# Altium schematic symbol library Sensor_Optical.SchLib: 71 symbols
Pins are listed as number, name and electrical type; pins without a type are passive.

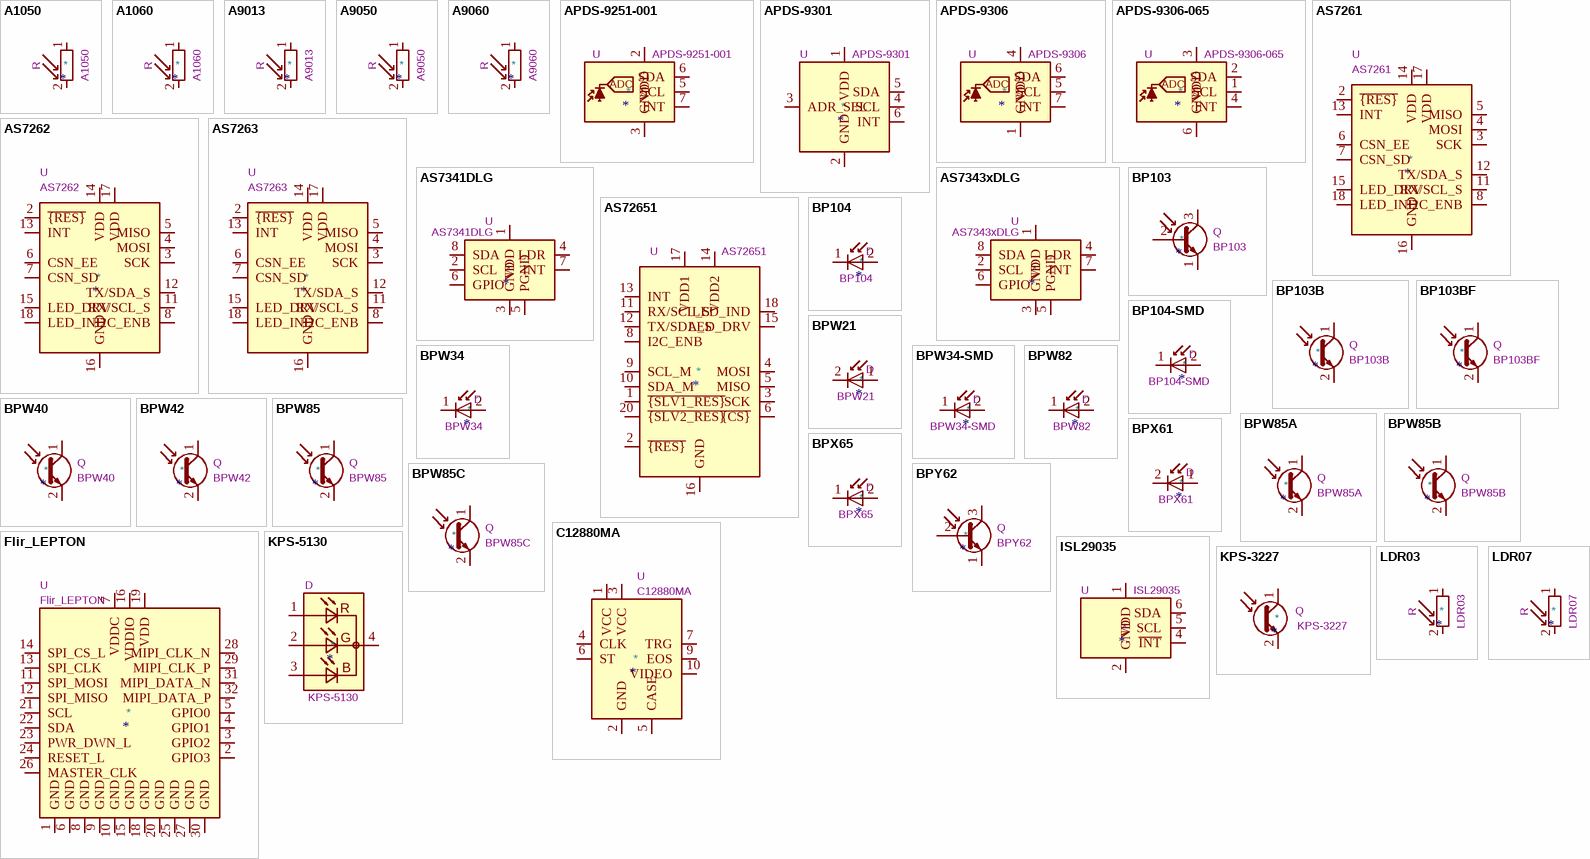
[diagram p0: symbols A1050 to LDR07]

## A1050
designator *  value A1050  Reference: R
ki_keywords: light dependent photo resistor LDR; ki_description: light dependent resistor; ki_fp_filters: R*LDR*D6.4*P3.4*; Footprint: OptoDevice:R_LDR_D6.4mm_P3.4mm_Vertical; Datasheet: http://cdn-reichelt.de/documents/datenblatt/A500/A106012.pdf
pins: 1, 2

## A1060
designator *  value A1060  Reference: R
ki_keywords: light dependent photo resistor LDR; ki_description: light dependent resistor; ki_fp_filters: R*LDR*D6.4*P3.4*; Footprint: OptoDevice:R_LDR_D6.4mm_P3.4mm_Vertical; Datasheet: http://cdn-reichelt.de/documents/datenblatt/A500/A106012.pdf
pins: 1, 2

## A9013
designator *  value A9013  Reference: R
ki_keywords: light dependent photo resistor LDR; ki_description: light dependent resistor; ki_fp_filters: R*LDR*5.0x4.1mm*P3mm*; Footprint: OptoDevice:R_LDR_5.0x4.1mm_P3mm_Vertical; Datasheet: http://www.produktinfo.conrad.com/datenblaetter/125000-149999/145475-da-01-en-FOTOWIDERSTAND_A_9060_A_9013.pdf
pins: 1, 2

## A9050
designator *  value A9050  Reference: R
ki_keywords: light dependent photo resistor LDR; ki_description: light dependent resistor; ki_fp_filters: R*LDR*5.0x4.1mm*P3mm*; Footprint: OptoDevice:R_LDR_5.0x4.1mm_P3mm_Vertical; Datasheet: http://cdn-reichelt.de/documents/datenblatt/A500/A90xxxx%23PE.pdf
pins: 1, 2

## A9060
designator *  value A9060  Reference: R
ki_keywords: light dependent photo resistor LDR; ki_description: light dependent resistor; ki_fp_filters: R*LDR*5.0x4.1mm*P3mm*; Footprint: OptoDevice:R_LDR_5.0x4.1mm_P3mm_Vertical; Datasheet: http://cdn-reichelt.de/documents/datenblatt/A500/A90xxxx%23PE.pdf
pins: 1, 2

## APDS-9251-001
designator *  value APDS-9251-001  Reference: U
ki_keywords: opto ambient light sensor; ki_description: Digital RGB, IR, and Ambient Light Sensor, 1.7-3.6V, LGA-8; ki_fp_filters: Broadcom*LGA*2x2mm*P0.5mm*; Footprint: OptoDevice:Broadcom_LGA-8_2x2mm_P0.5mm; Datasheet: https://docs.broadcom.com/doc/APDS-9251-001-DS
pins: 1 NC hidden, 2 VDD, 3 GND, 4 NC hidden, 5 SCL, 6 SDA, 7 INT, 8 NC hidden
text: ADC

## APDS-9301
designator *  value APDS-9301  Reference: U
ki_keywords: ambient light sensor i2c; ki_description: ambient light sensor, i2c interface, 2.7-3.6V; ki_fp_filters: Broadcom*APDS*9301*; Footprint: OptoDevice:Broadcom_APDS-9301; Datasheet: https://docs.broadcom.com/docs/AV02-2315EN
pins: 1 VDD, 2 GND, 3 ADR_SEL, 4 SCL, 5 SDA, 6 INT

## APDS-9306
designator *  value APDS-9306  Reference: U
ki_keywords: opto ambient light sensor; ki_description: Ambient Light Sensor, I2C interface, 1.7-3.6V, LGA-8; ki_fp_filters: Broadcom*LGA*2x2mm*P0.53mm*; Footprint: OptoDevice:Broadcom_LGA-8_2x2mm_P0.53mm; Datasheet: https://docs.broadcom.com/docs/AV02-4755EN
pins: 1 GND, 2 NC hidden, 3 NC hidden, 4 VDD, 5 SCL, 6 SDA, 7 INT, 8 NC hidden
text: ADC

## APDS-9306-065
designator *  value APDS-9306-065  Reference: U
ki_keywords: opto ambient light sensor; ki_description: Ambient Light Sensor, I2C interface, 1.7-3.6V, DFN-6; ki_fp_filters: Broadcom*DFN*2x2mm*P0.65mm*; Footprint: OptoDevice:Broadcom_DFN-6_2x2mm_P0.65mm; Datasheet: https://docs.broadcom.com/docs/AV02-4755EN
pins: 1 SCL, 2 SDA, 3 VDD, 4 INT, 5 NC hidden, 6 GND
text: ADC

## AS7261
designator *  value AS7261  Reference: U
ki_keywords: 6-Channel XYZ Spectral_ID Device Electronic Shutter Smart Interface i2c uart; ki_description: Spectral Sensing Engine, 6-Channel XYZ Spectral_ID; ki_fp_filters: AMS?LGA*4.7x4.5mm*P0.65mm*; Footprint: Package_LGA:AMS_LGA-20_4.7x4.5mm_P0.65mm; Datasheet: https://ams.com/documents/20143/36005/AS7261_DS000493_1-00.pdf/0e7d1f12-702e-d061-b07a-67b0b6316800
pins: 1 NF hidden, 2 ~{{RES}}, 3 SCK, 4 MOSI, 5 MISO, 6 CSN_EE, 7 CSN_SD, 8 I2C_ENB, 9 NF hidden, 10 NF hidden, 11 RX/SCL_S, 12 TX/SDA_S, 13 INT, 14 VDD, 15 LED_DRV, 16 GND, 17 VDD, 18 LED_IND, 19 NF hidden, 20 NF hidden

## AS7262
designator *  value AS7262  Reference: U
ki_keywords: 6-Channel Visible Spectral_ID Device Electronic Shutter Smart Interface i2c uart; ki_description: Spectral Sensing Engine, 6-Channel Visible Spectral_ID; ki_fp_filters: AMS?LGA*4.7x4.5mm*P0.65mm*; Footprint: Package_LGA:AMS_LGA-20_4.7x4.5mm_P0.65mm; Datasheet: https://ams.com/documents/20143/36005/AS7262_DS000486_5-00.pdf
pins: 1 NF hidden, 2 ~{{RES}}, 3 SCK, 4 MOSI, 5 MISO, 6 CSN_EE, 7 CSN_SD, 8 I2C_ENB, 9 NF hidden, 10 NF hidden, 11 RX/SCL_S, 12 TX/SDA_S, 13 INT, 14 VDD, 15 LED_DRV, 16 GND, 17 VDD, 18 LED_IND, 19 NF hidden, 20 NF hidden

## AS7263
designator *  value AS7263  Reference: U
ki_keywords: 6-Channel NIR Spectral_ID Device Electronic Shutter Smart Interface i2c uart; ki_description: Spectral Sensing Engine, 6-Channel NIR Spectral_ID; ki_fp_filters: AMS?LGA*4.7x4.5mm*P0.65mm*; Footprint: Package_LGA:AMS_LGA-20_4.7x4.5mm_P0.65mm; Datasheet: https://ams.com/documents/20143/36005/AS7263_DS000476_4-00.pdf
pins: 1 NF hidden, 2 ~{{RES}}, 3 SCK, 4 MOSI, 5 MISO, 6 CSN_EE, 7 CSN_SD, 8 I2C_ENB, 9 NF hidden, 10 NF hidden, 11 RX/SCL_S, 12 TX/SDA_S, 13 INT, 14 VDD, 15 LED_DRV, 16 GND, 17 VDD, 18 LED_IND, 19 NF hidden, 20 NF hidden

## AS7341DLG
designator *  value AS7341DLG  Reference: U
ki_keywords: 11-Channel Spectral i2c optical color; ki_description: 11-Channel Multi-Spectral Digital Sensor, OLGA-8; ki_fp_filters: AMS*OLGA*2x3.1mm*P0.8mm*; Footprint: Package_LGA:AMS_OLGA-8_2x3.1mm_P0.8mm; Datasheet: https://ams.com/documents/20143/36005/AS7341_DS000504_3-00.pdf
pins: 1 VDD, 2 SCL, 3 GND, 4 LDR, 5 PGND, 6 GPIO, 7 INT, 8 SDA

## AS7343xDLG
designator *  value AS7343xDLG  Reference: U
ki_keywords: 14-Channel Spectral i2c optical color; ki_description: 14-Channel Multi-Spectral Digital Sensor including XYZ, Clear and Flicker Detection, 380 - 1000 nm,OLGA-8; ki_fp_filters: AMS*OLGA*2x3.1mm*P0.8mm*; Footprint: Package_LGA:AMS_OLGA-8_2x3.1mm_P0.8mm; Datasheet: https://ams.com/documents/20143/6705498/AS7343_DS001046_6_00.pdf
pins: 1 VDD, 2 SCL, 3 GND, 4 LDR, 5 PGND, 6 GPIO, 7 INT, 8 SDA

## AS72651
designator *  value AS72651  Reference: U
ki_keywords: Smart Spectral Sensor; ki_description: Smart 18-Channel VIS+NIR Spectral_ID Sensor with Electronic Shutter, LGA-20; ki_fp_filters: AMS?LGA*4.7x4.5mm*P0.65mm*; Footprint: Package_LGA:AMS_LGA-20_4.7x4.5mm_P0.65mm; Datasheet: https://ams.com/documents/20143/36005/AS7265x_DS000612_1-00.pdf/08051c8a-a7f6-6231-7993-2d3fe0bf38b8
pins: 1 ~{{SLV1_RES}}, 2 ~{{RES}}, 3 SCK, 4 MOSI, 5 MISO, 6 ~{{CS}}, 7 NC hidden, 8 I2C_ENB, 9 SCL_M, 10 SDA_M, 11 RX/SCL_S, 12 TX/SDA_S, 13 INT, 14 VDD2, 15 LED_DRV, 16 GND, 17 VDD1, 18 LED_IND, 19 NC hidden, 20 ~{{SLV2_RES}}

## BP103
designator *  value BP103  Reference: Q
ki_keywords: npn phototransistor; ki_fp_filters: TO?18*Lens*; Footprint: Package_TO_SOT_THT:TO-18-3_Lens; Datasheet: http://www.osram-os.com/Graphics/XPic3/00101777_0.pdf/BP; ki_description: NPN Phototransistor
pins: 1 E, 2 B, 3 C

## BP103B
designator *  value BP103B  Reference: Q
ki_keywords: NPN phototransistor; ki_fp_filters: LED*D5.0mm*Clear*; Footprint: LED_THT:LED_D5.0mm_Clear; Datasheet: http://www.b-kainka.de/Daten/Sensor/bp103bf.pdf; ki_description: NPN phototransistor
pins: 1 C, 2 E

## BP103BF
designator *  value BP103BF  Reference: Q
ki_keywords: IR NPN phototransistor; ki_description: NPN phototransistor with daylight filter; ki_fp_filters: LED*D5.0mm*Clear*; Footprint: LED_THT:LED_D5.0mm_Clear; Datasheet: http://www.b-kainka.de/Daten/Sensor/bp103bf.pdf
pins: 1 C, 2 E

## BP104
designator *  value BP104  Reference: D
ki_keywords: opto PIN photodiode; ki_description: Silicon PIN Photodiode; ki_fp_filters: Osram*DIL2*4.3x4.65mm*P5.08*; Footprint: OptoDevice:Osram_DIL2_4.3x4.65mm_P5.08mm; Datasheet: http://www.vishay.com/docs/81500/81500.pdf
pins: 1 K, 2 A

## BP104-SMD
designator *  value BP104-SMD  Reference: D
ki_keywords: opto photodiode; ki_description: Silicon PIN Photodiode,  Area 2.2x2.2mm; ki_fp_filters: Osram*BP104*; Footprint: OptoDevice:Osram_BP104-SMD; Datasheet: https://dammedia.osram.info/media/resource/hires/osram-dam-5989350/BP%20104%20FAS_EN.pdf
pins: 1 K, 2 A

## BPW21
designator *  value BPW21  Reference: D
ki_keywords: opto photodiode; ki_description: Silicon Photodiode for the visible spectral range, TO-5 package; ki_fp_filters: TO?5*Window*; Footprint: Package_TO_SOT_THT:TO-5-2_Window; Datasheet: http://techwww.in.tu-clausthal.de/site/Dokumentation/Dioden/Fotodioden/BPW21-Fotodiode.pdf
pins: 1 A, 2 K

## BPW34
designator *  value BPW34  Reference: D
ki_keywords: opto PIN photodiode; ki_description: Silicon PIN Photodiode; ki_fp_filters: Osram*DIL2*4.3x4.65mm*P5.08*; Footprint: OptoDevice:Osram_DIL2_4.3x4.65mm_P5.08mm; Datasheet: http://www.vishay.com/docs/81521/bpw34.pdf
pins: 1 K, 2 A

## BPW34-SMD
designator *  value BPW34-SMD  Reference: D
ki_keywords: opto photodiode; ki_description: Silicon PIN Photodiode, Area 2.65x2.65mm; ki_fp_filters: Osram*BPW34S*; Footprint: OptoDevice:Osram_BPW34S-SMD; Datasheet: https://dammedia.osram.info/media/resource/hires/osram-dam-5488319/BPW%2034%20S_EN.pdf
pins: 1 K, 2 A

## BPW40
designator *  value BPW40  Reference: Q
ki_keywords: npn phototransistor; ki_description: Phototransistor NPN; ki_fp_filters: LED*D5.0mm*Clear*; Footprint: LED_THT:LED_D5.0mm_Clear; Datasheet: https://www.rcscomponents.kiev.ua/datasheets/bpw40.pdf
pins: 1 C, 2 E

## BPW42
designator *  value BPW42  Reference: Q
ki_keywords: NPN phototransistor opto; ki_description: NPN phototransistor; ki_fp_filters: LED*3.0mm*Clear*; Footprint: LED_THT:LED_D3.0mm_Clear; Datasheet: http://www.ges.cz/sheets/b/bpw42.pdf
pins: 1 C, 2 E

## BPW82
designator *  value BPW82  Reference: D
ki_keywords: opto photo diode; ki_description: Silicon PIN Photodiode with Daylight Blocking Filter; ki_fp_filters: Osram*BPW82*; Footprint: OptoDevice:Osram_BPW82; Datasheet: http://www.vishay.com/docs/81529/bpw82.pdf
pins: 1 K, 2 A

## BPW85
designator *  value BPW85  Reference: Q
ki_keywords: npn phototransistor; ki_description: Silicon NPN Phototransistor, Ica = 0.8-8mA, T-1; ki_fp_filters: LED*3.0mm*Clear*; Footprint: LED_THT:LED_D3.0mm_Clear; Datasheet: https://www.vishay.com/docs/81531/bpw85a.pdf
pins: 1 C, 2 E

## BPW85A
designator *  value BPW85A  Reference: Q
ki_keywords: npn phototransistor; ki_description: Silicon NPN Phototransistor, Ica = 0.8-2.5mA, T-1; ki_fp_filters: LED*3.0mm*Clear*; Footprint: LED_THT:LED_D3.0mm_Clear; Datasheet: https://www.vishay.com/docs/81531/bpw85a.pdf
pins: 1 C, 2 E

## BPW85B
designator *  value BPW85B  Reference: Q
ki_keywords: npn phototransistor; ki_description: Silicon NPN Phototransistor, Ica = 1.5-4mA, T-1; ki_fp_filters: LED*3.0mm*Clear*; Footprint: LED_THT:LED_D3.0mm_Clear; Datasheet: https://www.vishay.com/docs/81531/bpw85a.pdf
pins: 1 C, 2 E

## BPW85C
designator *  value BPW85C  Reference: Q
ki_keywords: npn phototransistor; ki_description: Silicon NPN Phototransistor, Ica = 3-8mA, T-1; ki_fp_filters: LED*3.0mm*Clear*; Footprint: LED_THT:LED_D3.0mm_Clear; Datasheet: https://www.vishay.com/docs/81531/bpw85a.pdf
pins: 1 C, 2 E

## BPX61
designator *  value BPX61  Reference: D
ki_keywords: photodiode opto; ki_description: Silicon Photodiode for the visible spectral range; ki_fp_filters: TO?5*Window*; Footprint: Package_TO_SOT_THT:TO-5-2_Window; Datasheet: http://www.osram-os.com/Graphics/XPic3/00101650_0.pdf
pins: 1 A, 2 K

## BPX65
designator *  value BPX65  Reference: D
ki_keywords: opto PIN photo diode; ki_description: Silicon PIN Photodiode, TO-18 package; ki_fp_filters: TO?18*Lens*; Footprint: Package_TO_SOT_THT:TO-18-2_Lens; Datasheet: http://www.osram-os.com/Graphics/XPic1/00181579_0.pdf/BPX%2065,%20Lead%20(Pb)%20Free%20Product%20-%20RoHS%20Compliant.pdf
pins: 1 K, 2 A

## BPY62
designator *  value BPY62  Reference: Q
ki_keywords: NPN Phototransistor opto; ki_description: NPN Phototransistor; ki_fp_filters: TO?18*Lens*; Footprint: Package_TO_SOT_THT:TO-18-3_Lens; Datasheet: http://www.osram-os.com/Graphics/XPic9/00208595_0.pdf
pins: 1 E, 2 B, 3 C

## C12880MA
designator *  value C12880MA  Reference: U
ki_keywords: spectrometer; ki_description: Micro spectrometer 340 to 850nm resolution 15nm; ki_fp_filters: Hamamatsu*C12880*; Footprint: OptoDevice:Hamamatsu_C12880; Datasheet: http://www.hamamatsu.com/resources/pdf/ssd/c12880ma_kacc1226e.pdf
pins: 1 VCC, 2 GND, 3 VCC, 4 CLK, 5 CASE, 6 ST, 7 TRG, 8 NC hidden, 9 EOS, 10 VIDEO

## Flir_LEPTON
designator *  value Flir_LEPTON  Reference: U
ki_keywords: LWIR camera; ki_description: LWIR camera 8 to 14um 80x60 pixel; ki_fp_filters: *105028*1001* *105028*2011*; Datasheet: https://cdn.sparkfun.com/datasheets/Sensors/Infrared/FLIR_Lepton_Data_Brief.pdf
pins: 1 GND, 2 GPIO3, 3 GPIO2, 4 GPIO1, 5 GPIO0, 6 GND, 7 VDDC, 8 GND, 9 GND, 10 GND, 11 SPI_MOSI, 12 SPI_MISO, 13 SPI_CLK, 14 SPI_CS_L, 15 GND, 16 VDDIO, 17 NC hidden, 18 GND, 19 VDD, 20 GND, 21 SCL, 22 SDA, 23 PWR_DWN_L, 24 RESET_L, 25 GND, 26 MASTER_CLK, 27 GND, 28 MIPI_CLK_N, 29 MIPI_CLK_P, 30 GND, 31 MIPI_DATA_N, 32 MIPI_DATA_P

## ISL29035
designator *  value ISL29035  Reference: U
ki_keywords: ambient light sensor i2c; ki_description: ambient light sensor, i2c interface, 2.25-3.63V, DFN-6; ki_fp_filters: Renesas*DFN*1.5x1.6mm*P0.5mm*; Footprint: OptoDevice:Renesas_DFN-6_1.5x1.6mm_P0.5mm; Datasheet: https://www.renesas.com/us/en/document/dst/isl29035-datasheet
pins: 1 VDD, 2 GND, 3 NC hidden, 4 ~{INT}, 5 SCL, 6 SDA

## KPS-3227
designator *  value KPS-3227  Reference: Q
ki_keywords: Kingbright npn phototransistor ambient light photo sensor; ki_description: Ambient light NPN phototransistor, KPS-3227; ki_fp_filters: Kingbright*KPS?3227*; Footprint: OptoDevice:Kingbright_KPS-3227; Datasheet: https://www.kingbright.com/attachments/file/psearch/000/00/00/KPS-3227SP1C(Ver.16).pdf
pins: 1, 2, 3 hidden, 4 hidden

## KPS-5130
designator *  value KPS-5130  Reference: D
ki_keywords: opto photodiode RGB colour sensor; ki_description: RGB Colour Sensor, KPS-5130; ki_fp_filters: Kingbright*KPS?5130*; Footprint: OptoDevice:Kingbright_KPS-5130; Datasheet: https://www.kingbright.com/attachments/file/psearch/000/00/20160808bak/KPS-5130PD7C(Ver.13).pdf
pins: 1 AR, 2 AG, 3 AB, 4 C
text: R; G; B

## LDR03
designator *  value LDR03  Reference: R
ki_keywords: light dependent photo resistor LDR; ki_description: light dependent resistor; ki_fp_filters: R*LDR*10x8.5mm*P7.6mm*; Footprint: OptoDevice:R_LDR_10x8.5mm_P7.6mm_Vertical; Datasheet: http://www.elektronica-componenten.nl/WebRoot/StoreNL/Shops/61422969/54F1/BA0C/C664/31B9/2173/C0A8/2AB9/2AEF/LDR03IMP.pdf
pins: 1, 2

## LDR07
designator *  value LDR07  Reference: R
ki_keywords: light dependent photo resistor LDR; ki_description: light dependent resistor; ki_fp_filters: R*LDR*5.1x4.3mm*P3.4mm*; Footprint: OptoDevice:R_LDR_5.1x4.3mm_P3.4mm_Vertical; Datasheet: http://www.tme.eu/de/Document/f2e3ad76a925811312d226c31da4cd7e/LDR07.pdf
pins: 1, 2

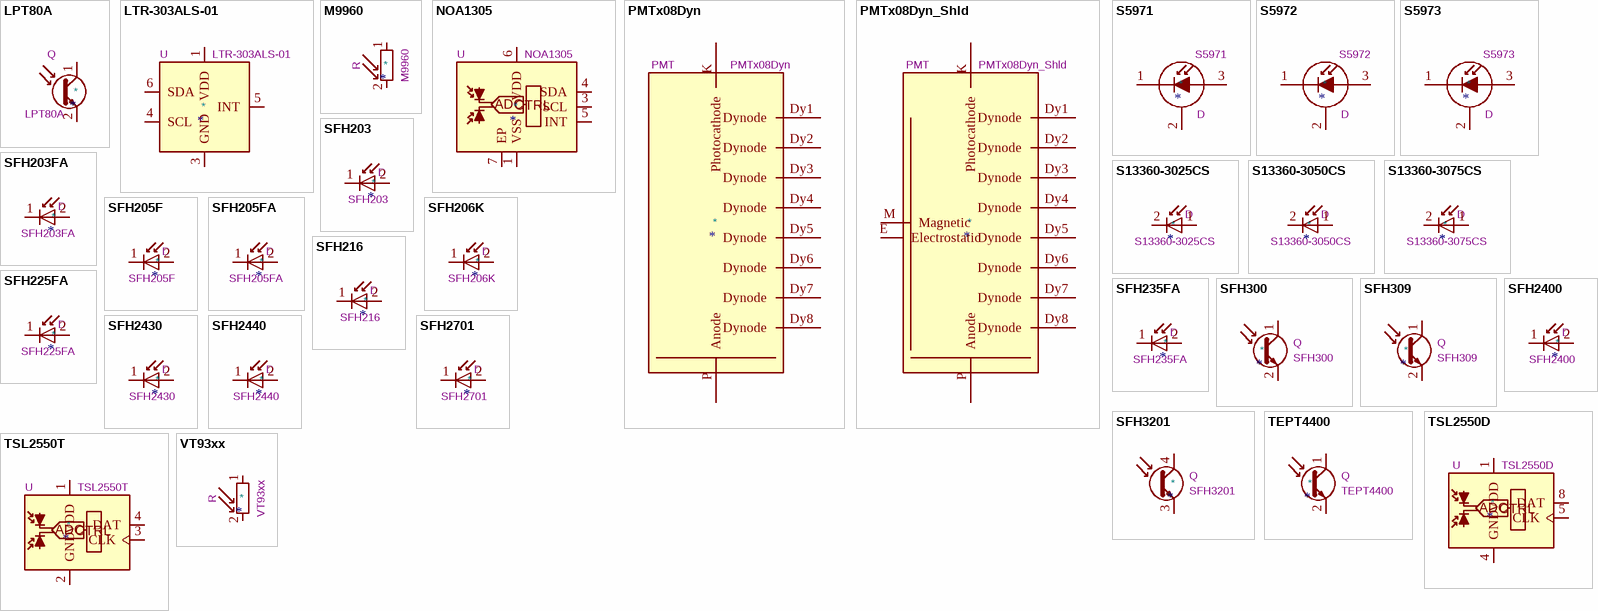
[diagram p1: symbols LPT80A to VT93xx]

## LPT80A
designator *  value LPT80A  Reference: Q
ki_keywords: NPN phototransistor; ki_fp_filters: Osram*LPT80A*; Footprint: OptoDevice:Osram_LPT80A; Datasheet: http://www.osram-os.com/Graphics/XPic4/00209607_0.pdf/LPT%2080A.pdf; ki_description: NPN phototransistor
pins: 1 C, 2 E

## LTR-303ALS-01
designator *  value LTR-303ALS-01  Reference: U
ki_keywords: ambient light sensor i2c; ki_description: ambient light sensor, i2c interface, 0.01 to 64k lux, 2.4-3.6V; ki_fp_filters: Lite*On*LTR*303ALS*01*; Footprint: OptoDevice:Lite-On_LTR-303ALS-01; Datasheet: https://optoelectronics.liteon.com/upload/download/DS86-2013-0004/LTR-303ALS-01_DS_V1.pdf
pins: 1 VDD, 2 NC hidden, 3 GND, 4 SCL, 5 INT, 6 SDA

## M9960
designator *  value M9960  Reference: R
ki_keywords: light dependent photo resistor LDR; ki_description: light dependent resistor; ki_fp_filters: R*LDR*5.2x5.2mm*P3.5mm*; Footprint: OptoDevice:R_LDR_5.2x5.2mm_P3.5mm_Horizontal; Datasheet: http://cdn-reichelt.de/documents/datenblatt/A500/M996011a_b.pdf
pins: 1, 2

## NOA1305
designator *  value NOA1305  Reference: U
ki_keywords: opto ambient light sensor; ki_description: Ambient Light Sensor with I2C Interface and Dark Current Compensation; ki_fp_filters: DFN*6*P0.65mm*; Footprint: Package_DFN_QFN:DFN-6-1EP_2x2mm_P0.65mm_EP1x1.6mm; Datasheet: http://www.onsemi.com/pub/Collateral/NOA1305-D.PDF
pins: 1 VSS, 2 NC hidden, 3 SCL, 4 SDA, 5 INT, 6 VDD, 7 EP
text: ADC; CTRL

## PMTx08Dyn
designator *  value PMTx08Dyn  Reference: PMT
ki_keywords: PMT 8-stage; ki_description: 8-stage photomultiplier tube; ki_fp_filters: PMT*; Datasheet: ~
pins: Dy1 Dynode, Dy2 Dynode, Dy3 Dynode, Dy4 Dynode, Dy5 Dynode, Dy6 Dynode, Dy7 Dynode, Dy8 Dynode, K Photocathode, P Anode

## PMTx08Dyn_Shld
designator *  value PMTx08Dyn_Shld  Reference: PMT
ki_keywords: PMT 8-stage; ki_description: 8-stage photomultiplier tube with electrostatic and magnetic shield; ki_fp_filters: PMT*; Datasheet: ~
pins: Dy1 Dynode, Dy2 Dynode, Dy3 Dynode, Dy4 Dynode, Dy5 Dynode, Dy6 Dynode, Dy7 Dynode, Dy8 Dynode, E Electrostatic, K Photocathode, M Magnetic, P Anode

## S5971
designator *  value S5971  Reference: D
ki_keywords: opto photodiode; ki_description: Si PIN Photodiode, 0.1 GHz, TO-18-3; ki_fp_filters: TO?18*; Footprint: Package_TO_SOT_THT:TO-18-3; Datasheet: https://www.hamamatsu.com/resources/pdf/ssd/s5971_etc_kpin1025e.pdf
pins: 1 K, 2 C, 3 A

## S5972
designator *  value S5972  Reference: D
ki_keywords: opto photodiode; ki_description: Si PIN Photodiode, 0.5 GHz, TO-18-3; ki_fp_filters: TO?18*; Footprint: Package_TO_SOT_THT:TO-18-3; Datasheet: https://www.hamamatsu.com/resources/pdf/ssd/s5971_etc_kpin1025e.pdf
pins: 1 K, 2 C, 3 A

## S5973
designator *  value S5973  Reference: D
ki_keywords: opto photodiode; ki_description: Si PIN Photodiode, 1 GHz, TO-18-3; ki_fp_filters: TO?18*; Footprint: Package_TO_SOT_THT:TO-18-3; Datasheet: https://www.hamamatsu.com/resources/pdf/ssd/s5971_etc_kpin1025e.pdf
pins: 1 K, 2 C, 3 A

## S13360-3025CS
designator *  value S13360-3025CS  Reference: D
ki_keywords: opto SiPM MPPC hamamatsu SPAD; ki_description: Multi-Pixel Photon Counter with 25µm pixel pitch; ki_fp_filters: Hamamatsu*S13360*30CS*; Footprint: OptoDevice:Hamamatsu_S13360-30CS; Datasheet: http://www.hamamatsu.com/resources/pdf/ssd/s13360_series_kapd1052e.pdf
pins: 1 A, 2 K

## S13360-3050CS
designator *  value S13360-3050CS  Reference: D
ki_keywords: opto SiPM MPPC hamamatsu SPAD; ki_description: Multi-Pixel Photon Counter with 50µm pixel pitch; ki_fp_filters: Hamamatsu*S13360*30CS*; Footprint: OptoDevice:Hamamatsu_S13360-30CS; Datasheet: http://www.hamamatsu.com/resources/pdf/ssd/s13360_series_kapd1052e.pdf
pins: 1 A, 2 K

## S13360-3075CS
designator *  value S13360-3075CS  Reference: D
ki_keywords: opto SiPM MPPC hamamatsu SPAD; ki_description: Multi-Pixel Photon Counter with 75µm pixel pitch; ki_fp_filters: Hamamatsu*S13360*30CS*; Footprint: OptoDevice:Hamamatsu_S13360-30CS; Datasheet: http://www.hamamatsu.com/resources/pdf/ssd/s13360_series_kapd1052e.pdf
pins: 1 A, 2 K

## SFH203
designator *  value SFH203  Reference: D
ki_keywords: opto PIN photodiode; ki_description: Silicon PIN Photodiode; ki_fp_filters: LED*D5.0mm*IRGrey*; Footprint: LED_THT:LED_D5.0mm_IRGrey; Datasheet: http://www.osram-os.com/Graphics/XPic9/00101656_0.pdf/SFH%20203,%20SFH%20203%20FA,%20Lead%20(Pb)%20Free%20Product%20-%20RoHS%20Compliant.pdf
pins: 1 K, 2 A

## SFH203FA
designator *  value SFH203FA  Reference: D
ki_keywords: PIN photodiode IR; ki_description: Silicon PIN Photodiode with Daylight Blocking Filter; ki_fp_filters: LED*D5.0mm*IRGrey*; Footprint: LED_THT:LED_D5.0mm_IRGrey; Datasheet: http://www.osram-os.com/Graphics/XPic9/00101656_0.pdf/SFH%20203,%20SFH%20203%20FA,%20Lead%20(Pb)%20Free%20Product%20-%20RoHS%20Compliant.pdf
pins: 1 K, 2 A

## SFH205F
designator *  value SFH205F  Reference: D
ki_keywords: opto photo diode; ki_description: Silicon PIN Photodiode with Daylight Blocking Filter; ki_fp_filters: Osram*SFH205*; Footprint: OptoDevice:Osram_SFH205; Datasheet: http://www.osram-os.com/Graphics/XPic2/00101668_0.pdf
pins: 1 K, 2 A

## SFH205FA
designator *  value SFH205FA  Reference: D
ki_keywords: PIN Photodiode; ki_description: Silicon PIN Photodiode with Daylight Blocking Filter; ki_fp_filters: Osram*SFH205*; Footprint: OptoDevice:Osram_SFH205; Datasheet: http://www.osram-os.com/Graphics/XPic9/00101665_0.pdf
pins: 1 K, 2 A

## SFH206K
designator *  value SFH206K  Reference: D
ki_keywords: opto PIN photodiode; ki_description: Silicon PIN Photodiode; ki_fp_filters: Osram*SFH205*; Footprint: OptoDevice:Osram_SFH205; Datasheet: http://www.osram-os.com/Graphics/XPic0/00211439_0.pdf/SFH%20206%20K.pdf
pins: 1 K, 2 A

## SFH216
designator *  value SFH216  Reference: D
ki_keywords: opto PIN photo diode; ki_description: Silicon PIN Photodiode With Very Short Switching Time, TO-18 package; ki_fp_filters: TO?18*Window*; Footprint: Package_TO_SOT_THT:TO-18-2_Window; Datasheet: http://www.osram-os.com/Graphics/XPic1/00029253_0.pdf/SFH
pins: 1 K, 2 A

## SFH225FA
designator *  value SFH225FA  Reference: D
ki_keywords: opto PIN photodiode IR; ki_description: Silicon PIN Photodiode with Daylight Blocking Filter; ki_fp_filters: Osram*SFH225*; Footprint: OptoDevice:Osram_SFH225; Datasheet: http://www.osram-os.com/Graphics/XPic0/00209685_0.pdf/SFH%20225%20FA.pdf
pins: 1 K, 2 A

## SFH235FA
designator *  value SFH235FA  Reference: D
ki_keywords: opto PIN photodiode IR; ki_description: Silicon PIN Photodiode with Daylight Blocking Filter; ki_fp_filters: Osram*SFH225*; Footprint: OptoDevice:Osram_SFH225; Datasheet: http://www.osram-os.com/Graphics/XPic3/00211469_0.pdf/SFH%20235%20FA.pdf
pins: 1 K, 2 A

## SFH300
designator *  value SFH300  Reference: Q
ki_keywords: NPN phototransistor; ki_description: silicon NPN phototransistor; ki_fp_filters: LED*D5.0mm*Clear*; Footprint: LED_THT:LED_D5.0mm_Clear; Datasheet: http://www.osram-os.com/Graphics/XPic2/00101785_0.pdf
pins: 1 C, 2 E

## SFH309
designator *  value SFH309  Reference: Q
ki_keywords: npn phototransistor; ki_description: Phototransistor NPN; ki_fp_filters: LED*3.0mm*Clear*; Footprint: LED_THT:LED_D3.0mm_Clear; Datasheet: http://www.osram-os.com/Graphics/XPic2/00101811_0.pdf/SFH%20309,%20SFH%20309%20FA,%20Lead%20(Pb)%20Free%20Product%20-%20RoHS%20Compliant.pdf
pins: 1 C, 2 E

## SFH2400
designator *  value SFH2400  Reference: D
ki_keywords: opto photodiode; ki_description: Silicon PIN Photodiode, SMD package; ki_fp_filters: Osram*SMD*SmartDIL*; Footprint: OptoDevice:Osram_SMD-SmartDIL; Datasheet: http://www.osram-os.com/Graphics/XPic5/00215665_0.pdf/SFH%202400.pdf
pins: 1 K, 2 A

## SFH2430
designator *  value SFH2430  Reference: D
ki_keywords: opto photodiode; ki_description: Silicon Photodiode, Vf 1.2V, Area 2.65x2.65mm; ki_fp_filters: Osram*SFH2430*; Footprint: OptoDevice:Osram_SFH2430; Datasheet: https://dammedia.osram.info/media/resource/hires/osram-dam-5467144/SFH%202430_EN.pdf
pins: 1 K, 2 A

## SFH2440
designator *  value SFH2440  Reference: D
ki_keywords: opto photodiode; ki_description: Silicon Photodiode, Vf 1V, Area 2.65x2.65mm; ki_fp_filters: Osram*SFH2440*; Footprint: OptoDevice:Osram_SFH2440; Datasheet: https://dammedia.osram.info/media/resource/hires/osram-dam-5467146/SFH%202440_EN.pdf
pins: 1 K, 2 A

## SFH2701
designator *  value SFH2701  Reference: D
ki_keywords: opto photodiode; ki_description: High Speed PIN Photodiode, SMD package; ki_fp_filters: LED*1206*; Footprint: LED_SMD:LED_1206_3216Metric_Castellated; Datasheet: http://www.osram-os.com/Graphics/XPic6/00201111_0.pdf/SFH%202701.pdf
pins: 1 K, 2 A

## SFH3201
designator *  value SFH3201  Reference: Q
ki_keywords: NPN phototransistor; ki_description: Silicon NPN phototransistor, SMD-6; ki_fp_filters: Osram*SFH9x0x*; Footprint: OptoDevice:Osram_SFH9x0x; Datasheet: https://dammedia.osram.info/media/resource/hires/osram-dam-2495980/SFH%203201.pdf
pins: 3 E, 4 C

## TEPT4400
designator *  value TEPT4400  Reference: Q
ki_keywords: npn phototransistor ambient light sensor; ki_description: Ambient Light Sensor, NPN Epitaxial Planar Phototransistor, T-1; ki_fp_filters: LED*3.0mm*Clear*; Footprint: LED_THT:LED_D3.0mm_Clear; Datasheet: https://www.vishay.com/docs/81341/tept4400.pdf
pins: 1 C, 2 E

## TSL2550D
designator *  value TSL2550D  Reference: U
ki_keywords: opto ambient light sensor; ki_description: Ambient Light Sensor with SMbus Interface, SO-8 interface; ki_fp_filters: SOIC*3.9x4.9mm*P1.27mm*; Footprint: Package_SO:SOIC-8_3.9x4.9mm_P1.27mm; Datasheet: http://ams.com/eng/content/download/250130/975613/142977
pins: 1 VDD, 2 NC hidden, 3 NC hidden, 4 GND, 5 CLK, 6 NC hidden, 7 NC hidden, 8 DAT
text: ADC; CTRL

## TSL2550T
designator *  value TSL2550T  Reference: U
ki_keywords: opto ambient light sensor; ki_description: Ambient Light Sensor with SMbus Interface, T-4 interface SMD; ki_fp_filters: AMS*TSL2550*SMD*; Footprint: OptoDevice:AMS_TSL2550_SMD; Datasheet: http://ams.com/eng/content/download/250130/975613/142977
pins: 1 VDD, 2 GND, 3 CLK, 4 DAT
text: ADC; CTRL

## VT93xx
designator *  value VT93xx  Reference: R
ki_keywords: light dependent photo resistor LDR; ki_description: light dependent resistor; ki_fp_filters: R*LDR*4.9x4.2mm*P2.54mm*; Footprint: OptoDevice:R_LDR_4.9x4.2mm_P2.54mm_Vertical; Datasheet: http://www.produktinfo.conrad.com/datenblaetter/125000-149999/140375-da-01-en-FOTOWIDERSTAND__VT_93_N2__THT_.pdf
pins: 1, 2